# EAGLE library part RELAY-DPDT- (library _mtvl.relay)
Small signal relay
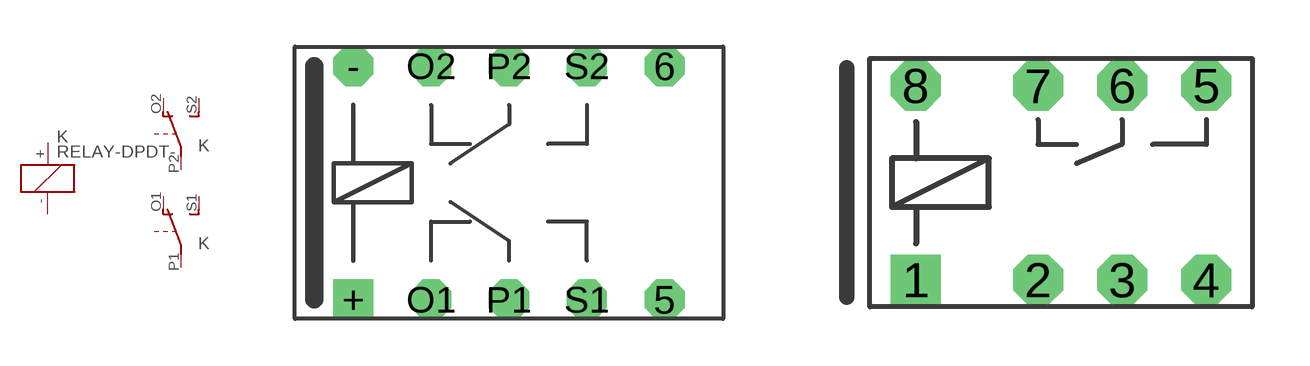
[diagram p0: symbol with the pads of AL5WN-K; footprints AL5WN-K, HFD4/5L]

Designator prefix K; gates G$1=K G$2=U2 G$3=U2

## RELAY-DPDT-AL5WN-K  [AL5WN-K]
+  G$1:+  pas
-  G$1:-  pas
O1  G$2:O  pas
O2  G$3:O  pas
P1  G$2:P  pas
P2  G$3:P  pas
S1  G$2:S  pas
S2  G$3:S  pas

## RELAY-DPDT-HFD4  [HFD4/5L]
1  G$1:+  pas
2  G$2:O  pas
3  G$2:P  pas
4  G$2:S  pas
5  G$3:S  pas
6  G$3:P  pas
7  G$3:O  pas
8  G$1:-  pas

## RELAY-DPDT-P2-V23079  [P2-V23079]
1  G$1:+  pas
3  G$2:O  pas
4  G$2:P  pas
5  G$2:S  pas
8  G$3:S  pas
9  G$3:P  pas
10  G$3:O  pas
12  G$1:-  pas

## RELAY-DPDT-D2N-V23105  [D2N-V23105]
1  G$1:+  pas
3  G$2:O  pas
4  G$2:P  pas
5  G$2:S  pas
6  G$3:S  pas
7  G$3:P  pas
8  G$3:O  pas
10  G$1:-  pas

## Footprint AL5WN-K (pad centres in mm)
drill 0.8 octagon: 5 5.08,-3.81; 6 5.08,3.81; - -5.08,3.81; O1 -2.54,-3.81; O2 -2.54,3.81; P1 0,-3.81; P2 0,3.81; S1 2.54,-3.81; S2 2.54,3.81
drill 0.8 square: + -5.08,-3.81

## Footprint HFD4/5L (pad centres in mm)
HFD4 Subminiature signal relay https://static.chipdip.ru/lib/868/DOC003868651.pdf IM43TS https://www.electronshik.ru/pdf/i/IM_RELAY_TE_2017.pdf
drill 0.8 square: 1 -3.2,-2.54
drill 0.8 octagon: 2 0,-2.54; 3 2.2,-2.54; 4 4.4,-2.54; 5 4.4,2.54; 6 2.2,2.54; 7 0,2.54; 8 -3.2,2.54

## Footprint P2-V23079 (pad centres in mm)
P2 V23079 relay AXICOM https://static.chipdip.ru/lib/245/DOC000245374.pdf
drill 1 square: 1 -5.08,-3.81
drill 1 octagon: 3 0,-3.81; 4 2.54,-3.81; 5 5.08,-3.81; 6 7.62,-3.81; 7 7.62,3.81; 8 5.08,3.81; 9 2.54,3.81; 10 0,3.81; 12 -5.08,3.81

## Footprint D2N-V23105 (pad centres in mm)
AXICOM D2n V23105 Relay https://static.chipdip.ru/lib/245/DOC000245409.pdf
drill 1 square: 1 -7.62,-3.81
drill 1 octagon: 3 0,-3.81; 4 5.08,-3.81; 5 10.16,-3.81; 6 10.16,3.81; 7 5.08,3.81; 8 0,3.81; 10 -7.62,3.81